# Altium footprint library 0805 - LED.PcbLib: 1 footprints
Each footprint in its own frame and in the unit in brackets; x right, y up, seen from the top. Pads: shape width x height; smd on the part's side, far side on the other; paste and mask are expansions set on the pad; w line width, h text height; cw(c..) or ccw(c..) is an arc to the next point about the centre after c.
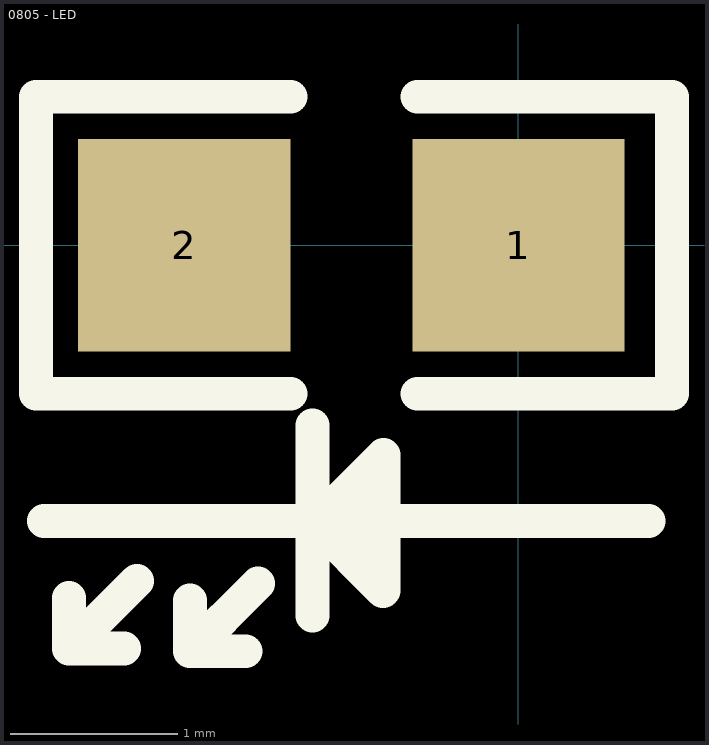
[diagram p0: the footprint, top view; thin cyan lines are the x and y axes]

## 0805 - LED [mm]
height 0.889
pads (2):
  rect 1.27x1.27 smd: 1(0,0) 2(-2,0)
TopOverlay:
  lines w0.203: -2.839,-1.651 0.78,-1.65 ; -2.691,-2.111 -2.691,-2.416 ; -2.36,-2.416 -2.691,-2.416 ; -2.284,-2.009 -2.691,-2.416 ; -1.965,-2.126 -1.965,-2.431 ; -1.635,-2.431 -1.965,-2.431 ; -1.558,-2.024 -1.965,-2.431 ; -1.365,-0.889 -2.889,-0.889 -2.889,0.889 -1.365,0.889 ; -1.232,-2.217 -1.232,-1.078 ; -1.212,-1.67 -0.81,-2.072 ; -1.208,-1.657 -0.806,-1.257 -0.806,-2.068 ; -0.948,-1.53 -0.806,-1.53 ; -0.929,-1.739 -0.929,-1.651 ; -0.603,-0.889 0.921,-0.889 0.921,0.889 -0.603,0.889
3D body: height 0.85, standoff 0.01, extent -2.051,-0.478 0.012,0.429